# Altium integrated library heath_monitor_lib_by_phong.IntLib: 6 symbols
Pins are listed as number, name and electrical type; pins without a type are passive.

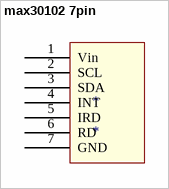
[diagram p0: symbol max30102 7pin]

## max30102 7pin
designator *
mã hàng: G4VK; Tên: Cảm biến nhịp tim và oxy trong máu MAX30102; Giá tiền: 36.000₫
footprint max30102 7pin
pins: 1 Vin, 2 SCL, 3 SDA, 4 INT, 5 IRD, 6 RD, 7 GND


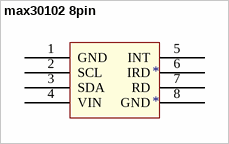
[diagram p1: symbol max30102 8pin]

## max30102 8pin
designator *
Giá hàng: 45k
footprint max30102 8pin
pins: 1 GND, 2 SCL, 3 SDA, 4 VIN, 5 INT, 6 IRD, 7 RD, 8 GND


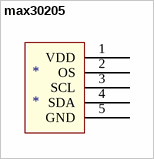
[diagram p2: symbol max30205]

## max30205
designator *
Mã hàng: AM-057; Giá: 178.000
footprint max30205
pins: 1 VDD, 2 OS, 3 SCL, 4 SDA, 5 GND


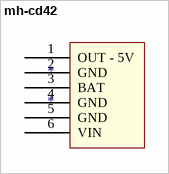
[diagram p3: symbol mh-cd42]

## mh-cd42
designator *
footprint mh-cd42
pins: 1 OUT - 5V, 2 GND, 3 BAT, 4 GND, 5 GND, 6 VIN "nguồn vào"


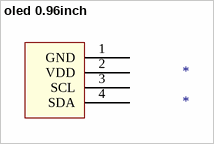
[diagram p4: symbol oled 0.96inch]

## oled 0.96inch
designator *
footprint oled 0x96inch
pins: 1 GND, 2 VDD, 3 SCL, 4 SDA


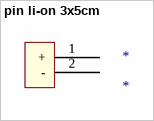
[diagram p5: symbol pin li-on 3x5cm]

## pin li-on 3x5cm
designator *
Kích thước: 3x5cm; Dung lượng pin: 1000mAh
footprint pin li-on 3x5cm
pins: 1 +, 2 -